# Altium footprint library DIP.PcbLib: 9 footprints
Each footprint in its own frame and in the unit in brackets; x right, y up, seen from the top. Pads: shape width x height; smd on the part's side, far side on the other; paste and mask are expansions set on the pad; w line width, h text height; cw(c..) or ccw(c..) is an arc to the next point about the centre after c.
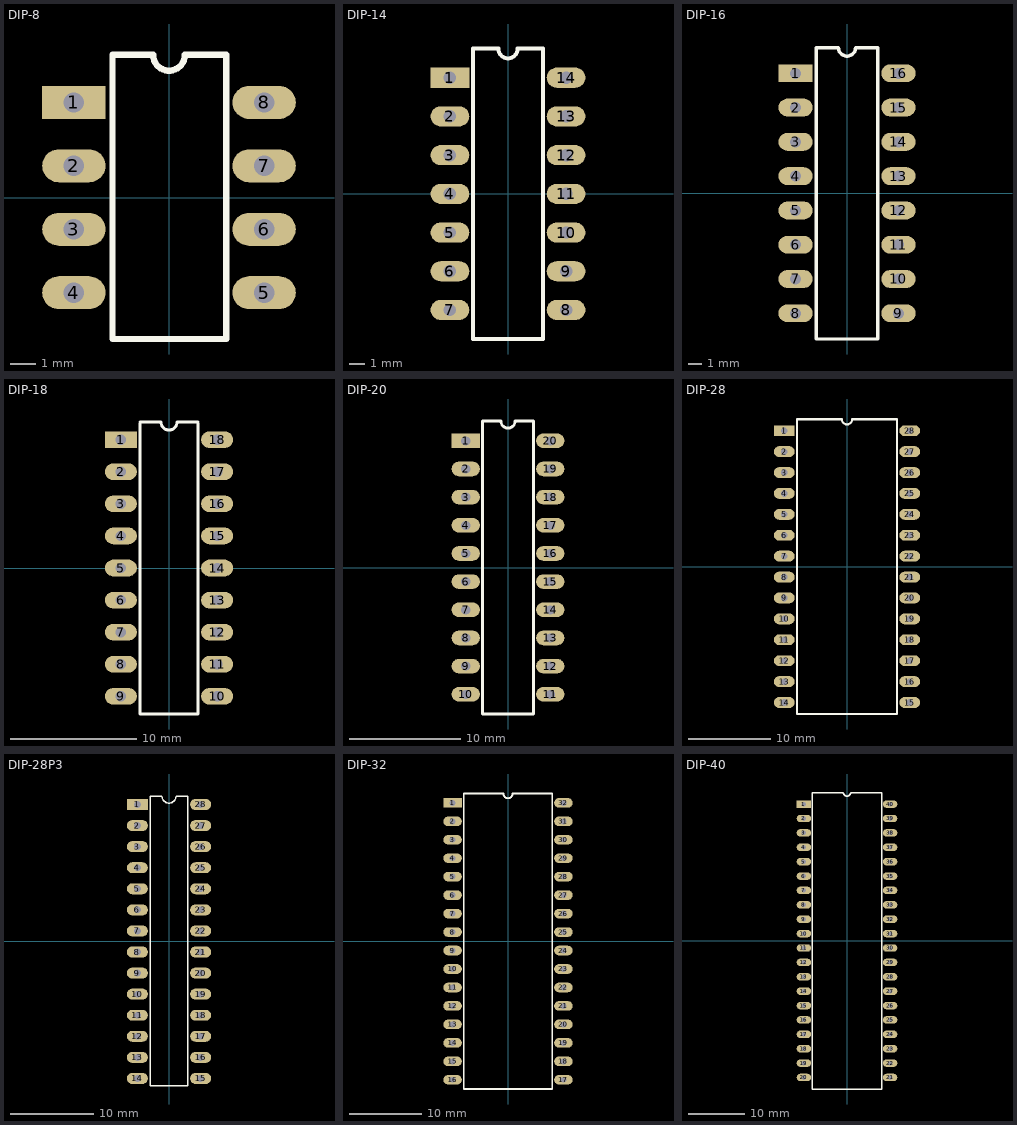
[diagram p0: the footprints below, top view; thin cyan lines are the x and y axes]

## DIP-8 [mil]
pads (8):
  rect 100x52 hole 32: 1(-150,150)
  oval 100x52 hole 32: 2(-150,50) 3(-150,-50) 4(-150,-150) 5(150,-150) 6(150,-50) 7(150,50) 8(150,150)
Top Overlay:
  lines w10: -89,-223 90,-223 90,225 25,225 cw(c0,225) -25,225 -89,225 -89,-223
3D body: height 165, standoff -105, extent -155,-225 155,225

## DIP-14 [mil]
pads (14):
  rect 100x52 hole 32: 1(-150,300)
  oval 100x52 hole 32: 2(-150,200) 3(-150,100) 4(-150,0) 5(-150,-100) 6(-150,-200) 7(-150,-300) 8(150,-300) 9(150,-200) 10(150,-100) 11(150,0) 12(150,100) 13(150,200) 14(150,300)
Top Overlay:
  lines w10: -90,-375 90,-375 90,375 25,375 cw(c0,375) -25,375 -90,375 -90,-375
3D body: height 165, standoff -105, extent -155,-375 155,375

## DIP-16 [mil]
pads (16):
  rect 100x52 hole 32: 1(-150,350)
  oval 100x52 hole 32: 2(-150,250) 3(-150,150) 4(-150,50) 5(-150,-50) 6(-150,-150) 7(-150,-250) 8(-150,-350) 9(150,-350) 10(150,-250) 11(150,-150) 12(150,-50) 13(150,50) 14(150,150) 15(150,250) 16(150,350)
Top Overlay:
  lines w10: -90,-425 90,-425 90,425 25,425 cw(c0,425) -25,425 -90,425 -90,-425
3D body: height 165, standoff -101, extent -155,-425 155,425

## DIP-18 [mil]
pads (18):
  rect 100x52 hole 32: 1(-150,400)
  oval 100x52 hole 32: 2(-150,300) 3(-150,200) 4(-150,100) 5(-150,0) 6(-150,-100) 7(-150,-200) 8(-150,-300) 9(-150,-400) 10(150,-400) 11(150,-300) 12(150,-200) 13(150,-100) 14(150,0) 15(150,100) 16(150,200) 17(150,300) 18(150,400)
Top Overlay:
  lines w10: -90,450 -90,-455 90,-455 90,450 ; -90,455 -25,455 ccw(c0,455) 25,455 90,455
3D body: height 179.92, standoff -150, extent -153.93,-457.48 153.94,457.48

## DIP-20 [mil]
pads (20):
  rect 100x52 hole 32: 1(-150,450)
  oval 100x52 hole 32: 2(-150,350) 3(-150,250) 4(-150,150) 5(-150,50) 6(-150,-50) 7(-150,-150) 8(-150,-250) 9(-150,-350) 10(-150,-450) 11(150,-450) 12(150,-350) 13(150,-250) 14(150,-150) 15(150,-50) 16(150,50) 17(150,150) 18(150,250) 19(150,350) 20(150,450)
Top Overlay:
  lines w10: -90,-520 -90,520 -25,520 ccw(c0,520) 25,520 90,520 90,-520 -90,-520
3D body: height 179.92, standoff -150, extent -153.93,-522.44 153.94,522.44

## DIP-28 [mil]
pads (28):
  rect 100x52 hole 32: 1(-300,650)
  oval 100x52 hole 32: 2(-300,550) 3(-300,450) 4(-300,350) 5(-300,250) 6(-300,150) 7(-300,50) 8(-300,-50) 9(-300,-150) 10(-300,-250) 11(-300,-350) 12(-300,-450) 13(-300,-550) 14(-300,-650) 15(300,-650) 16(300,-550) 17(300,-450) 18(300,-350) 19(300,-250) 20(300,-150) 21(300,-50) 22(300,50) 23(300,150) 24(300,250) 25(300,350) 26(300,450) 27(300,550) 28(300,650)
Top Overlay:
  lines w10: -240,-705 240,-705 240,705 25,705 cw(c0,705) -25,705 -240,705 -240,-705
3D body: height 183.46, standoff -129.13, extent -307,-708.86 307.96,708.86

## DIP-28P3 [mil]
pads (28):
  rect 100x52 hole 32: 1(-150,650)
  oval 100x52 hole 32: 2(-150,550) 3(-150,450) 4(-150,350) 5(-150,250) 6(-150,150) 7(-150,50) 8(-150,-50) 9(-150,-150) 10(-150,-250) 11(-150,-350) 12(-150,-450) 13(-150,-550) 14(-150,-650) 15(150,-650) 16(150,-550) 17(150,-450) 18(150,-350) 19(150,-250) 20(150,-150) 21(150,-50) 22(150,50) 23(150,150) 24(150,250) 25(150,350) 26(150,450) 27(150,550) 28(150,650)
Top Overlay:
  lines w6: -33.58,690.04 -90,690.04 -90,-685.04 90,-685.04 90,690 ; -33.54,690 ccw(c0,690) 33.54,690 89.96,690
3D body: height 179.92, standoff -150, extent -153.94,-689.96 153.94,689.97

## DIP-32 [mil]
pads (32):
  rect 100x52 hole 32: 1(-300,750)
  oval 100x52 hole 32: 2(-300,650) 3(-300,550) 4(-300,450) 5(-300,350) 6(-300,250) 7(-300,150) 8(-300,50) 9(-300,-50) 10(-300,-150) 11(-300,-250) 12(-300,-350) 13(-300,-450) 14(-300,-550) 15(-300,-650) 16(-300,-750) 17(300,-750) 18(300,-650) 19(300,-550) 20(300,-450) 21(300,-350) 22(300,-250) 23(300,-150) 24(300,-50) 25(300,50) 26(300,150) 27(300,250) 28(300,350) 29(300,450) 30(300,550) 31(300,650) 32(300,750)
Top Overlay:
  lines w10: -240,-800 240,-800 240,800 25,800 cw(c0,800) -25,800 -240,800 -240,-800

## DIP-40 [mil]
pads (40):
  rect 100x52 hole 32: 1(-300,950)
  oval 100x52 hole 32: 2(-300,850) 3(-300,750) 4(-300,650) 5(-300,550) 6(-300,450) 7(-300,350) 8(-300,250) 9(-300,150) 10(-300,50) 11(-300,-50) 12(-300,-150) 13(-300,-250) 14(-300,-350) 15(-300,-450) 16(-300,-550) 17(-300,-650) 18(-300,-750) 19(-300,-850) 20(-300,-950) 21(300,-950) 22(300,-850) 23(300,-750) 24(300,-650) 25(300,-550) 26(300,-450) 27(300,-350) 28(300,-250) 29(300,-150) 30(300,-50) 31(300,50) 32(300,150) 33(300,250) 34(300,350) 35(300,450) 36(300,550) 37(300,650) 38(300,750) 39(300,850) 40(300,950)
Top Overlay:
  lines w10: -240,-1030 240,-1030 240,1030 25,1030 cw(c0,1030) -25,1030 -240,1030 -240,-1030
3D body: height 224.41, standoff -101.57, extent -304.92,-1032.48 304.93,1032.48